# Altium footprint library Low_PWR.PcbLib: 51 footprints (part 4 of 4)
Each footprint in its own frame and in the unit in brackets; x right, y up, seen from the top. Pads: shape width x height; smd on the part's side, far side on the other; paste and mask are expansions set on the pad; w line width, h text height; cw(c..) or ccw(c..) is an arc to the next point about the centre after c.
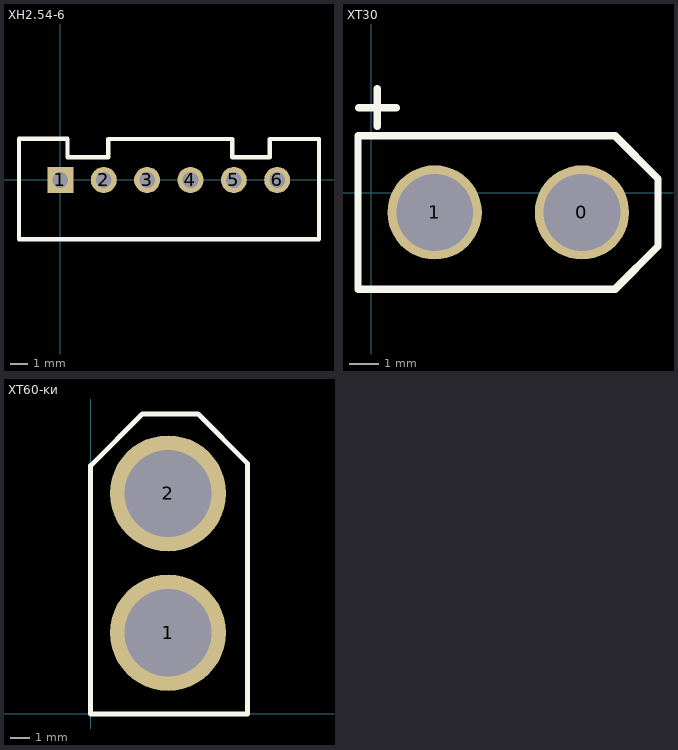
[diagram p3: the footprints below, top view; thin cyan lines are the x and y axes]

## XH2.54-6 [mm]
pads (6):
  rect 1.5x1.5 hole 0.9: 1(0,0)
  round 1.5 hole 0.9: 2(2.5,0) 3(5,0) 4(7.5,0) 5(10,0) 6(12.5,0)
Top Overlay:
  lines w0.254: -2.388,-3.429 -2.388,2.388 0.406,2.388 0.406,1.321 2.769,1.321 2.769,2.362 9.906,2.362 9.906,1.321 12.065,1.321 12.065,2.362 14.91,2.362 14.91,-3.429 -2.388,-3.429
3D body "6pin-2.5.step": height 7, standoff -3.4, extent -2.477,-3.383 14.923,2.367

## XT30 [mm]
pads (2):
  round 3.2 hole 2.6: 0(7.147,-0.671) 1(2.147,-0.671)
Top Overlay:
  lines w0.254: -0.433,2.885 0.837,2.885 ; 0.202,2.25 0.202,3.52 ; 8.33,-3.211 9.727,-1.814 ; 8.33,1.869 9.727,0.472 ; 9.727,-1.814 8.27,-3.271 -0.453,-3.271 -0.453,1.929 8.27,1.929 9.727,0.472 ; 9.727,-1.814 9.727,0.472
3D body: height 11.5, standoff 5, extent 0.202,-2.576 9.092,1.234
3D body: height 5, standoff 0, extent -0.433,-3.211 9.727,1.996

## XT60-ĸͷ [mm]
pads (2):
  round 6 hole 4.5: 1(4,4.2) 2(4,11.4)
Top Overlay:
  lines w0.254: 0,12.827 2.667,15.494 2.667,15.5 ; 5.08,15.5 5.554,15.5 ; 2.667,15.5 0,12.833 0,0 8.1,0 8.1,12.954 ; 2.667,15.5 5.554,15.5 ; 5.554,15.5 8.1,12.954 ; 5.554,15.5 8.1,12.954